# Altium footprint library 1_to_5_Pin.PcbLib: 194 footprints (part 9 of 13)
Each footprint in its own frame and in the unit in brackets; x right, y up, seen from the top. Pads: shape width x height; smd on the part's side, far side on the other; paste and mask are expansions set on the pad; w line width, h text height; cw(c..) or ccw(c..) is an arc to the next point about the centre after c.
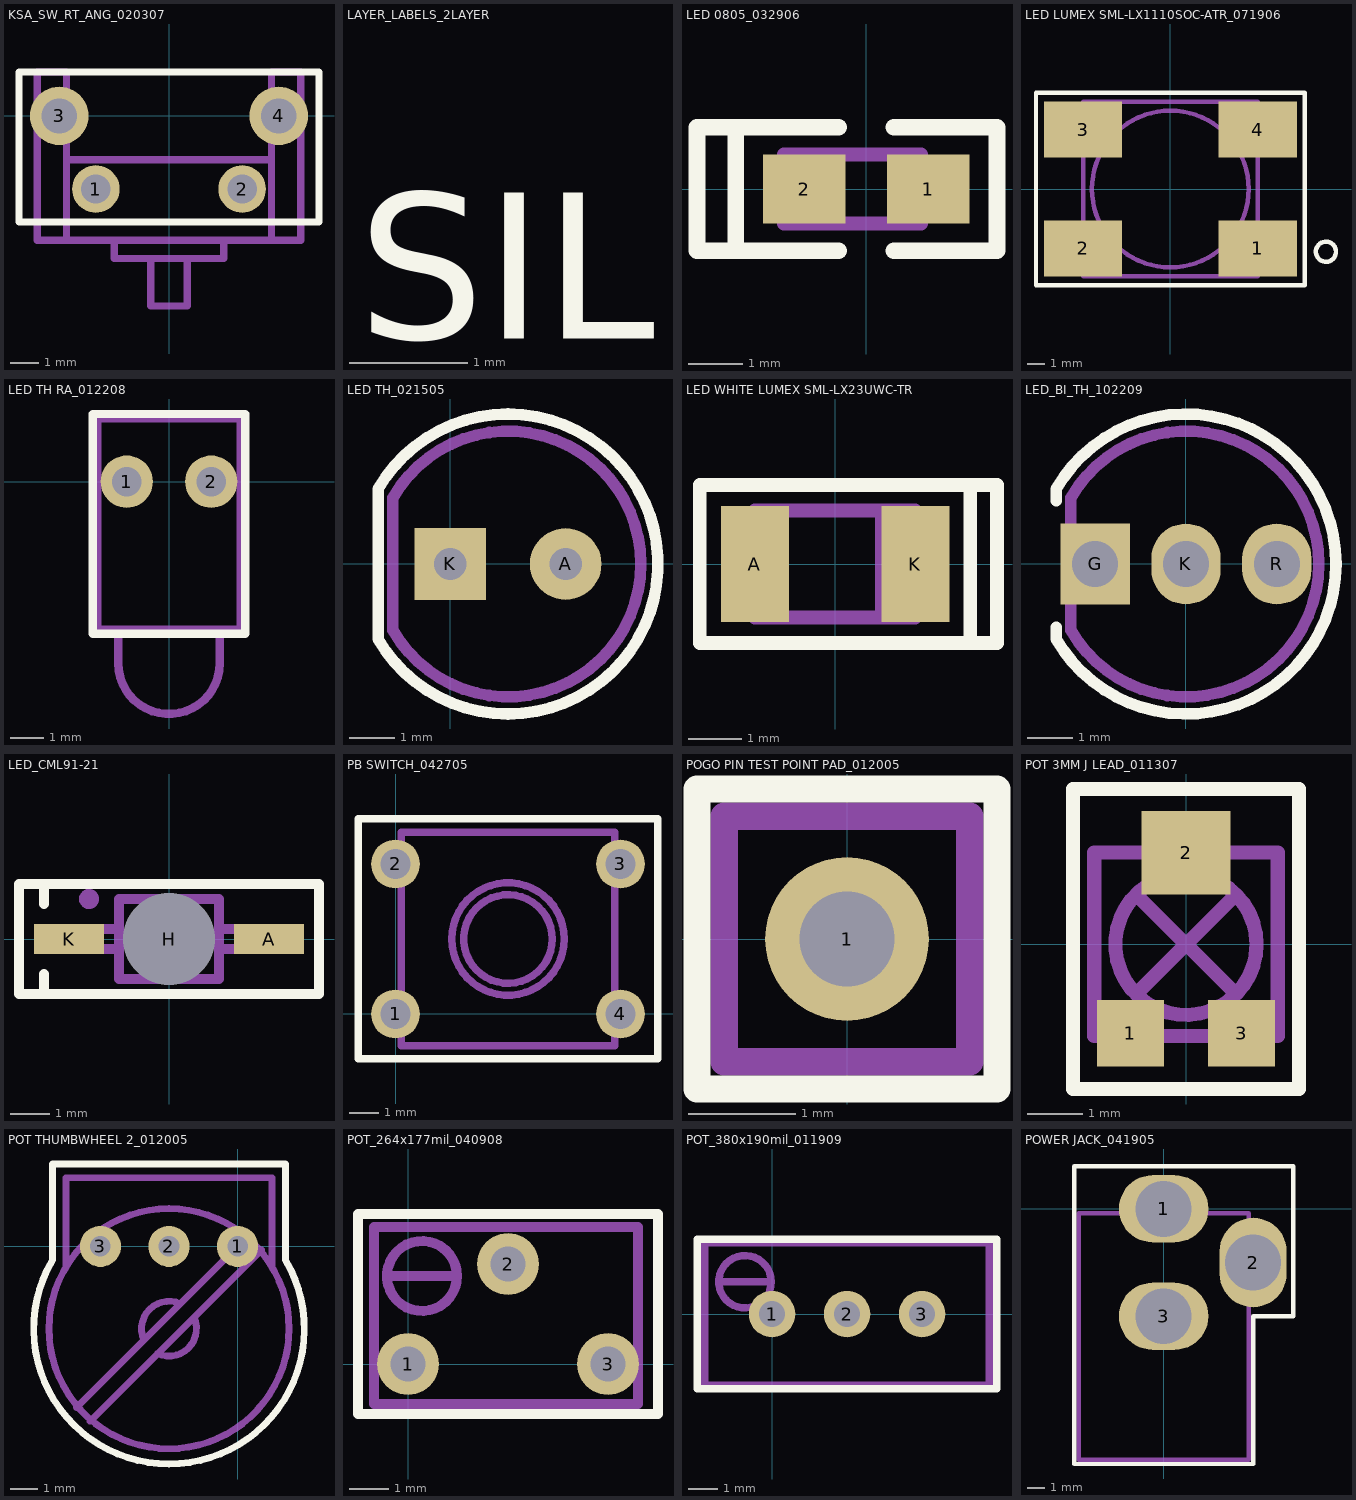
[diagram p8: the footprints below, top view; thin cyan lines are the x and y axes]

## KSA_SW_RT_ANG_020307 [mil] "TH"
height 250
pads (4):
  round 65 hole 40: 1(-100,-100) 2(100,-100)
  round 80 hole 48: 3(-150,0) 4(150,0)
Top Overlay:
  lines w10: -205,-145 -205,60 205,60 205,-145 -205,-145
Assembly Outline:
  lines w10: -140,-170 -140,-60 ; -75,-170 -75,-195 75,-195 75,-170 ; -25,-195 -25,-260 25,-260 25,-195 ; 140,-170 140,-60 ; -140,-60 140,-60 ; -140,-60 -140,60 -180,60 -180,-170 180,-170 180,60 140,60 140,-60
Assembly Designator:
  text ".Designator" at -45,-25 h40
Assembly Comment:
  text ".Comment" at -125,80 h40

## LAYER_LABELS_2LAYER [mil] "FEATURE PCB DOCUMENTATION"
Top Layer:
  text "TOP LAYER" at 193.94,6.9 h100
Bottom Layer:
  text "BOTTOM LAYER" at 1209.94,13.03 h100
Top Overlay:
  text "SILK SCREEN" at 174.25,10.54 h100
Bottom Overlay:
  text "BOT SILK SCREEN" at 1401.43,16.9 h90
Top Paste:
  text "TOP PASTE" at 155.74,4.4 h100
Top Solder:
  text "TOP MASK" at 215.74,9.4 h100
Bottom Solder:
  text "BOTTOM MASK" at 1110.74,9.4 h100
Keep-Out Layer:
  text "KEEPOUT" at 305.74,4.4 h100
Assembly Outline:
  text "ASSEMBLY" at 189.5,2 h100
Title:
Mechanical 10:
  text "PANEL" at -82.5,-84 h100
Drill Drawing:
  text "DRILL" at 395.74,4.4 h100

## LED 0805_032906 [mil] "SMT"
height 31.5
pads (2):
  rect 60x50 smd: 1(45,0) 2(-45,0)
Top Overlay:
  lines w12: -20,-45 -95,-45 ; -20,45 -95,45 ; 20,-45 95,-45 95,45 20,45 ; -95,-45 -95,45 ; -95,-45 -123.03,-45 -123.03,45 -95,45
Assembly Outline:
  lines w10: -40,-25 -40,25 ; -40,-25 40,-25 40,25 -40,25 ; -40,-25 -60.04,-25 -60.04,25 -40,25
Assembly Designator:
  text ".Designator" at -58.07,43.31 h40
Assembly Comment:
  text ".Comment" at -77.76,-85.63 h40

## LED LUMEX SML-LX1110SOC-ATR_071906 [mil] "SMT"
height 170
pads (4):
  rect 175x125 smd: 1(195,-132.5) 2(-195,-132.5) 3(-195,132.5) 4(195,132.5)
Top Overlay:
  circle w10: c347.5,-140 r22.5
  lines w10: -300,-215 -300,0 -300,215 0,215 300,215 300,0 300,-215 0,-215 -300,-215
Assembly Outline:
  circle w10: c0,0 r175
  lines w10: -195,-175 -225,-175 -225,-90 -195,-90 ; -195,90 -225,90 -225,175 -195,175 ; 0,195 -195,195 ; 45,-195 127.5,-195 195,-127.5 ; 195,-90 225,-90 ; 195,90 225,90 225,175 195,175 ; 225,-132.5 225,-90 ; -195,195 195,195 195,-195 ; -195,195 -195,-195 195,-195 ; 195,-195 195,-175 225,-175 225,-90
Assembly Designator:
  text ".Designator" at -37.5,-15 h40
Assembly Comment:
  text ".Comment" at -117.5,-75 h40

## LED TH RA_012208 [mil] "TH"
height 280
pads (2):
  round 62 hole 35: 1(-50,0) 2(50,0)
Top Overlay:
  lines w10: -90,-180 -90,80 90,80 90,-180 -90,-180
Assembly Outline:
  lines w10: -60,-175 -60,-215 ccw(c0,-215) 60,-215 60,-175 ; -85,-175 -85,75 85,75 85,-175 -85,-175
Assembly Designator:
  text ".Designator" at -60,-105 h40
Assembly Comment:
  text ".Comment" at -145,70 h40

## LED TH_021505 [mil] "TH"
height 250
pads (2):
  round 62 hole 28: A(100,0)
  rect 62x62 hole 28: K(0,0)
Top Overlay:
  lines w10: -62.58,-65 ccw(c50,0) -62.58,65 -62.58,-65
Assembly Outline:
  lines w10: -49.69,-57.55 ccw(c50,0) -49.69,57.55 -49.69,-57.55
Assembly Designator:
  text ".Designator" at -10,-15 h40
Assembly Comment:
  text ".Comment" at -75,-165 h40

## LED WHITE LUMEX SML-LX23UWC-TR [mil] "SMT"
height 55.12
pads (2):
  rect 50x85 smd: A(-59.06,0) K(59.06,0)
Top Overlay:
  lines w10: 99.41,-58.07 0,-58.07 -99.41,-58.07 -99.41,-33.46 -99.41,58.07 0,58.07 99.41,58.07 ; 99.41,-58.07 99.41,33.46 99.41,58.07 ; 99.41,-58.07 119.09,-58.07 119.09,58.07 99.41,58.07
Assembly Outline:
  lines w10: 34.45,-39.37 34.45,39.37 59.06,39.37 ; 59.06,0 59.06,39.37 ; 59.06,39.37 59.06,-39.37 -59.06,-39.37 -59.06,39.37 59.06,39.37
Assembly Designator:
  text ".Designator" at -44.29,-19.68 h40
Assembly Comment:
  text ".Comment" at -92.52,-110.24 h40

## LED_BI_TH_102209 [mil] "TH"
height 250
pads (3):
  rect 60x70 hole 40: G(-78.74,0)
  oval 60x70 hole 40: K(0,0) R(78.74,0)
Top Overlay:
  lines w10: -112.58,-55 -112.58,-65 ccw(c0,0) 130,0 ccw(c0,0) -112.58,65 -112.58,55
Assembly Outline:
  lines w10: -99.69,-57.55 ccw(c0,0) -99.69,57.55 -99.69,-57.55
Assembly Designator:
  text ".Designator" at -110,-15 h40
Assembly Comment:
  text ".Comment" at -175,-165 h40

## LED_CML91-21 [mil] "SMT"
height 60
pads (3):
  rect 70x30 smd: A(100,0) K(-100,0)
  round 60 hole 92: H(0,0)
Top Overlay:
  lines w10: -125,-55 -125,-35 ; -125,35 -125,55 ; -150,-55 150,-55 150,55 -150,55 -150,-55
Assembly Outline:
  circle w10: c-80,40 r5
  circle w10: c0,0 r40
  lines w10: -50,-10 -100,-10 -100,10 -50,10 ; 50,-10 100,-10 100,10 50,10 ; -50,-40 -50,40 50,40 50,-40 -50,-40
Assembly Designator:
  text ".Designator" at -70,55 h40
Assembly Comment:
  text ".Comment" at -120,-100 h40

## PB SWITCH_042705 [mil] "TH"
height 180
pads (4):
  round 65 hole 40: 1(0,0) 2(0,200) 3(300,200) 4(300,0)
Top Overlay:
  lines w10: -50,-60 -50,260 150,260 350,260 350,-60 -50,-60
Assembly Outline:
  circle w10: c150,100 r59
  circle w10: c150,100 r75
  lines w10: 7.39,-42.39 7.39,242.61 292.39,242.61 292.39,-42.39 7.39,-42.39
Assembly Designator:
  text ".Designator" at 110,80 h40
Assembly Comment:
  text ".Comment" at 35,-105 h40

## POGO PIN TEST POINT PAD_012005 [mil] "FEATURE SMT PCB"
pads (1):
  round 60 hole 35: 1(0,0)
Top Overlay:
  lines w10: -55,-55 55,-55 55,55 0,55 -55,55 -55,-55
Assembly Outline:
  lines w10: -45,-45 45,-45 45,45 0,45 -45,45 -45,-45
Assembly Designator:
  text ".Designator" at -40,55 h40
Assembly Comment:
  text ".Comment" at -65,-95 h40

## POT 3MM J LEAD_011307 [mm] "SMT"
height 1.981
pads (3):
  rect 1.2x1.2 smd: 1(-1,-1.6) 3(1,-1.6)
  rect 1.6x1.5 smd: 2(0,1.65)
Top Overlay:
  lines w0.254: -2.032,-2.603 -2.032,2.794 0,2.794 2.032,2.794 2.032,-2.603 -2.032,-2.603
Assembly Outline:
  circle w0.254: c0,0 r1.27
  lines w0.254: -1.397,-1.651 -1.397,-1.968 -0.889,-1.968 -0.889,-1.651 ; -0.889,-0.889 0.889,0.889 ; -0.826,0.826 0.826,-0.826 ; -0.572,1.651 -0.572,2.032 0.508,2.032 0.508,1.651 ; 0.889,-1.651 0.889,-1.968 1.397,-1.968 1.397,-1.651 ; -1.651,-1.651 -1.651,1.651 1.651,1.651 1.651,-1.651 -1.651,-1.651
Assembly Designator:
  text ".Designator" at -2.032,2.794 h1.02
Assembly Comment:
  text ".Comment" at -4.508,-3.873 h1.02

## POT THUMBWHEEL 2_012005 [mil] "TH"
height 160
pads (3):
  round 60 hole 30: 1(0,0) 2(-100,0) 3(-200,0)
Top Overlay:
  lines w10: -269.99,-19.99 ccw(c-99.99,-119.99) 70.01,-19.99 70.01,120.01 20.01,120.01 -269.99,120.01 -269.99,-19.99
Assembly Outline:
  circle w10: c-100,-120 r175
  lines w10: -250,-30 -250,100 -100,100 50,100 50,-30 ; -234.99,-234.99 -99.99,-99.99 15.01,15.01 ; -214.99,-254.99 -99.99,-139.99 35.01,-4.99 ; -136.47,-136.41 cw(c-99.99,-119.99) -83.49,-83.56 ; -116.5,-156.43 ccw(c-99.99,-119.99) -63.48,-103.67
Assembly Designator:
  text ".Designator" at -160,-75 h40
Assembly Comment:
  text ".Comment" at -250,-140 h40

## POT_264x177mil_040908 [mil] "TH"
height 200
pads (3):
  round 62 hole 35: 1(0,0) 2(100,100) 3(200,0)
Top Overlay:
  lines w10: -50,-50 250,-50 250,150 -50,150 -50,-50
Assembly Outline:
  circle w10: c14,88 r35
  lines w10: -20,88 47,88 ; -34,-40 -34,137 230,137 230,-40 -34,-40
Assembly Designator:
  text ".Designator" at 50,10 h40
Assembly Comment:
  text ".Comment" at -30,-100 h40

## POT_380x190mil_011909 [mil] "TH"
height 380
pads (3):
  round 62 hole 35: 1(0,0) 2(100,0) 3(200,0)
Top Overlay:
  lines w10: -100,-100 300,-100 300,100 -100,100 -100,-100
Assembly Outline:
  circle w10: c-36,43 r35
  lines w10: -70,43 -1,43 ; -90,-95 -90,95 290,95 290,-95 -90,-95
Assembly Designator:
  text ".Designator" at 50,10 h40
Assembly Comment:
  text ".Comment" at -35,-155 h40

## POWER JACK_041905 [mil] "TH"
height 440
pads (3):
  oval 200x150 hole 125: 1(0,0) 3(0,-240)
  oval 150x200 hole 125: 2(200,-120)
Top Overlay:
  lines w10: -200,-570 200,-570 199.99,-240 289.99,-240 289.99,95 -200.01,95 -200,-570
Assembly Outline:
  lines w10: -190.01,-560 -190.01,-10 189.99,-10 189.99,-560 -190.01,-560
Assembly Designator:
  text ".Designator" at -60,-400 h40
Assembly Comment:
  text ".Comment" at -170,-530 h40